# Altium footprint library WSON-8(4.0X3.0).PcbLib: 1 footprints
Each footprint in its own frame and in the unit in brackets; x right, y up, seen from the top. Pads: shape width x height; smd on the part's side, far side on the other; paste and mask are expansions set on the pad; w line width, h text height; cw(c..) or ccw(c..) is an arc to the next point about the centre after c.
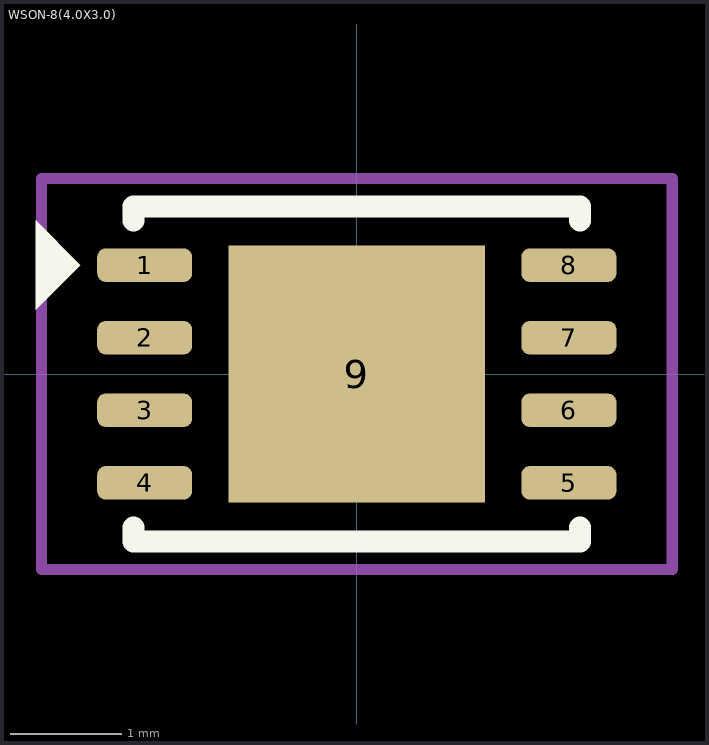
[diagram p0: the footprint, top view; thin cyan lines are the x and y axes]

## WSON-8(4.0X3.0) [mm]
pads (9):
  rrect50% 0.85x0.3 smd: 1(-1.9,0.975) 2(-1.9,0.325) 3(-1.9,-0.325) 4(-1.9,-0.975) 5(1.9,-0.975) 6(1.9,-0.325) 7(1.9,0.325) 8(1.9,0.975)
  rect 2.3x2.3 smd: 9(0,0)
Top Overlay:
  region: -2.875,0.575 -2.875,1.375 -2.475,0.975
  lines w0.2: -2,-1.375 -2,-1.5 2,-1.5 2,-1.375 ; -2,1.375 -2,1.5 2,1.5 2,1.375
Top Courtyard:
  lines w0.1: -2.825,-1.75 -2.825,1.75 2.825,1.75 2.825,-1.75 -2.825,-1.75
3D body "BQ771801DPJR.stp": height 0.8, standoff 0, extent -2,-1.5 2,1.5